# EAGLE library part LM324DT (library ATMEGA328PB-AN)
LM324DT: 4 High Gain Op-AMP Specifications Manufacturer: STMicroelectronics Voltage - Supply: 3V ~ 30V Package: 14-SOIC Datasheet: LM324DT <http://www.st.com/content/ccc/resource/technical/document/datasheet/bd/fc/46/43/26/8f/40/7f/CD00001046.pdf/files/CD00001046.pdf/jcr:content/translations/en.CD00001046.pdf> Digi-Key Part#: 497-1580-1-ND <https://www.digikey.com/product-detail/en/stmicroelectronics/LM324DT/497-1580-1-ND/592078>
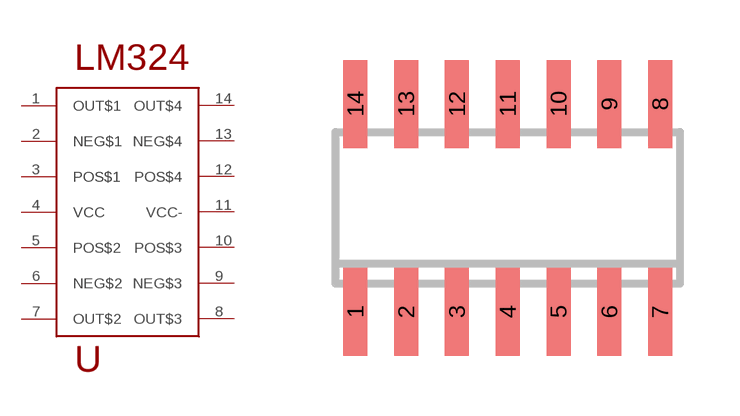
[diagram p1: symbol with the pads of SO14; footprint SO14]

Designator prefix U

## LM324DT  [SO14]
1  OUT$1  out
2  NEG$1  in
3  POS$1  in
4  VCC  pwr
5  POS$2  in
6  NEG$2  in
7  OUT$2  out
8  OUT$3  out
9  NEG$3  in
10  POS$3  in
11  VCC-  pwr
12  POS$4  in
13  NEG$4  in
14  OUT$4  pwr

## Footprint SO14 (pad centres in mm)
Small Outline Package 14
smd 0.6 x 2.2: 1 -3.81,-2.6; 2 -2.54,-2.6; 3 -1.27,-2.6; 4 0,-2.6; 5 1.27,-2.6; 6 2.54,-2.6; 7 3.81,-2.6; 8 3.81,2.6; 9 2.54,2.6; 10 1.27,2.6; 11 0,2.6; 12 -1.27,2.6; 13 -2.54,2.6; 14 -3.81,2.6